# Altium schematic symbol library Resistor.SchLib: 2 symbols
Pins are listed as number, name and electrical type; pins without a type are passive.

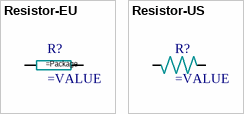
[diagram p0: symbols Resistor-EU to Resistor-US]

## Resistor-EU
designator R?
Resistor
pins: 1, 2

## Resistor-US
designator R?
Resistor
pins: 1, 2